# Altium schematic symbol library inductor.SchLib: 1 symbol
Pins are listed as number, name and electrical type; pins without a type are passive.

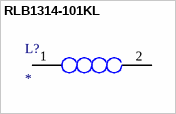
[diagram p0: symbol RLB1314-101KL]

## RLB1314-101KL
designator L?
Inductor; Manufacturer_Name: Bourns; Manufacturer_Part_Number: RLB1314-101KL; Datasheet Link: https://datasheet.datasheetarchive.com/originals/distributors/SFDatasheet-7/sf-000140383.pdf; Mouser Part Number: 652-RLB1314-101KL; Mouser Price/Stock: https://www.mouser.co.uk/ProductDetail/Bourns/RLB1314-101KL?qs=AC4ivEYFOTANeGVpHnHmUA%3D%3D; Arrow Part Number: RLB1314-101KL; Arrow Price/Stock: https://www.arrow.com/en/products/rlb1314-101kl/bourns?region=europe
footprint RLB1314-101KL
pins: 1, 2